# EAGLE library part 690357280876 (library WR-MM)
WR-MM Male SMT Connector w/o Latch & w/o Polarization Material Properties Insulator Material PBT Insulator Flammability Rating UL94 V-0 Insulator Color Red Contact Material Phosphor Bronze Contact Plating Matte Tin over Nickel Contact Type Stamped Packaging Properties cULus Approval E323964 Packaging Tape and Reel General Information Operating Temperature -40 °C up to +105 °C Pitch 2.54 mm Gender Male Electrical Properties Working Voltage 250 V (AC) Withstanding Voltage 500 V (AC) Contact Resistance 10 mΩ RISO 1000 MΩ <https://www.we-online.com/components/media/o33158v209%20Family-WR-MM-69035728xx76.jpg> Details see: www.we-online.com/en/components/products/MM_1_27_SMT_MALE_CONNECTOR_W_O_LATCH_AND_POLARIZATION_69035728XX76 <www.we-online.com/catalog/MM_1_27_SMT_MALE_CONNECTOR_W_O_LATCH_AND_POLARIZATION_69035728XX76/?utm_source=eagle_model&utm_medium=description_link&utm_campaign=eisos_eagle> Updated by Ella 2025-02-28 2025 (C) Würth Elektronik
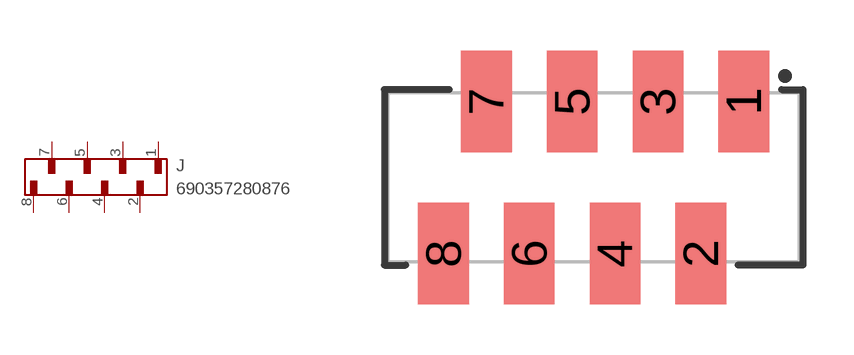
[diagram p40: symbol with the pads of 690357280876; footprint 690357280876]

Designator prefix J

## 690357280876 (DATASHEET-URL: https://www.we-online.com/redexpert/spec/690357280876?ae; GENDER: Male; IR: 1.5A; PACKAGING: Tape and Reel; PART-NUMBER: 690357280876; PINS: 8; PITCH: 2.54; TYPE: Straight; VALUE: 690357280876)  [690357280876]
1  1  pas
2  2  pas
3  3  pas
4  4  pas
5  5  pas
6  6  pas
7  7  pas
8  8  pas

## Footprint 690357280876 (pad centres in mm)
WR-MM Male SMT Connector w/o Latch & w/o Polarization, 8 pins
smd 1.5 x 3: 1 4.445,2.25; 2 3.175,-2.25; 3 1.905,2.25; 4 0.635,-2.25; 5 -0.635,2.25; 6 -1.905,-2.25; 7 -3.175,2.25; 8 -4.445,-2.25